# Altium schematic symbol library MS5611-01BA03.Schlib: 1 symbol
Pins are listed as number, name and electrical type; pins without a type are passive.

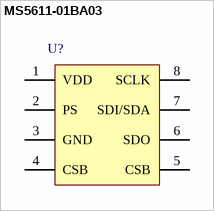
[diagram p0: symbol MS5611-01BA03]

## MS5611-01BA03
designator U?  (value not drawn)
Barometric Pressure Sensor
pins: 1 VDD, 2 PS, 3 GND, 4 CSB, 5 CSB, 6 SDO, 7 SDI/SDA, 8 SCLK